# EAGLE library part MICRO_SD (library NR_connectors)
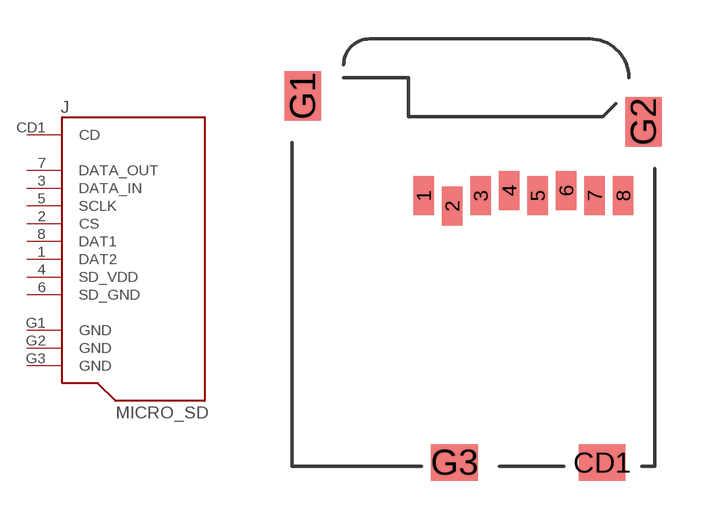
[diagram p0: symbol with the pads of MICROSD_PUSH_PUSH_AMPHENOL; footprint MICROSD_PUSH_PUSH_AMPHENOL]

Designator prefix J

## MICRO_SD  [MICROSD_PUSH_PUSH_AMPHENOL]
1  DAT2
2  CS
3  DATA_IN
4  SD_VDD  pwr
5  SCLK
6  SD_GND  pwr
7  DATA_OUT
8  DAT1
CD1  CD
G1  GND  pwr
G2  GND  pwr
G3  GND  pwr

## Footprint MICROSD_PUSH_PUSH_AMPHENOL (pad centres in mm)
smd 0.8 x 1.5: 1 -1.915,2.95; 2 -0.815,2.55; 3 0.285,2.95; 4 1.385,3.15; 5 2.485,2.95; 6 3.585,3.15; 7 4.685,2.95; 8 5.785,2.95
smd 1.8 x 1.4: CD1 4.975,-7.35; G3 -0.725,-7.35
smd 1.4 x 1.9: G1 -6.575,6.8; G2 6.575,5.8